# Altium schematic symbol library 5.1 - 1.25mm连接器(FPC1.25_GH1.25_MX1.25).SchLib: 16 symbols
Pins are listed as number, name and electrical type; pins without a type are passive.

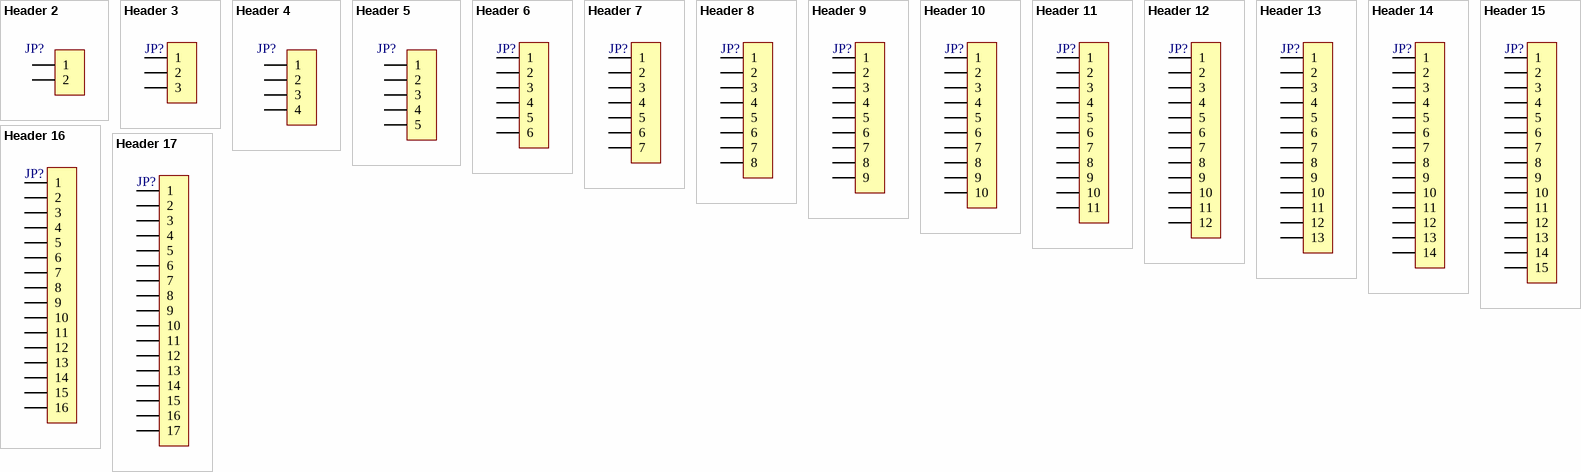
[diagram p0: symbols Header 2 to Header 17]

## Header 2
designator JP?, comment HDR-1X2  (value not drawn)
2P连接器; 联系卖家 免费技术支持: 封装库来自淘宝卖家ID：黄晶宝石; BOM名称: 2P连接器
footprint MX1.25-W-2P (长：4.25mm，宽：1.8mm，高：3.3mm)
footprint MX1.25-L-2P (长：4.25mm，宽：3.2mm，高：4.2mm)
footprint MX1.25-WT-2P (长：7.65mm，宽：4.2mm，高：3.4mm)
footprint MX1.25-LT-2P (长：7.25m，宽：3.7mm，高：4.7mm)
footprint GH1.25-LT-2P (GH1.25 2P 立贴插座)
footprint GH1.25-WT-2P (GH1.25 2P 卧贴插座)
pins: 1, 2

## Header 3
designator JP?, comment HDR-1X3  (value not drawn)
3P连接器; 联系卖家 免费技术支持: 封装库来自淘宝卖家ID：黄晶宝石; BOM名称: 3P连接器
footprint MX1.25-W-3P (长：5.5mm，宽：1.8mm，高：3.3mm)
footprint MX1.25-L-3P (长：5.5mm，宽：3.2mm，高：4.2mm)
footprint MX1.25-WT-3P (长：8.9mm，宽：4.2mm，高：3.4mm)
footprint MX1.25-LT-3P (长：8.5m，宽：3.7mm，高：4.7mm)
footprint GH1.25-LT-3P (GH1.25 3P 立贴插座)
footprint GH1.25-WT-3P (GH1.25 2P 卧贴插座)
pins: 1, 2, 3

## Header 4
designator JP?, comment HDR-1X4  (value not drawn)
4P连接器; 联系卖家 免费技术支持: 封装库来自淘宝卖家ID：黄晶宝石; BOM名称: 4P连接器
footprint MX1.25-W-4P (长：6.75mm，宽：1.8mm，高：3.3mm)
footprint MX1.25-L-4P (长：6.75mm，宽：3.2mm，高：4.2mm)
footprint MX1.25-WT-4P (长：10.15mm，宽：4.2mm，高：3.4mm)
footprint MX1.25-LT-4P (长：9.75m，宽：3.7mm，高：4.7mm 淘宝ID:黄晶宝石)
footprint FPC1.25-LI-4P (4脚，长：8.5mm，宽：4.5mm，高：7.3mm)
pins: 1, 2, 3, 4

## Header 5
designator JP?, comment HDR-1X5  (value not drawn)
5P连接器; 联系卖家 免费技术支持: 封装库来自淘宝卖家ID：黄晶宝石; BOM名称: 5P连接器
footprint MX1.25-W-5P (长：8mm，宽：1.8mm，高：3.3mm)
footprint MX1.25-L-5P (长：8mm，宽：3.2mm，高：4.2mm)
footprint MX1.25-WT-5P (长：11.4mm，宽：4.2mm，高：3.4mm)
footprint MX1.25-LT-5P (长：11m，宽：3.7mm，高：4.7mm 淘宝ID:黄晶宝石)
footprint FPC1.25-LI-5P (5脚，长：9.75mm，宽：4.5mm，高：7.3mm)
pins: 1, 2, 3, 4, 5

## Header 6
designator JP?, comment HDR-1X6  (value not drawn)
6P连接器; 联系卖家 免费技术支持: 封装库来自淘宝卖家ID：黄晶宝石; BOM名称: 6P连接器
footprint MX1.25-W-6P (长：9.25mm，宽：1.8mm，高：3.3mm)
footprint MX1.25-L-6P (长：9.25mm，宽：3.2mm，高：4.2mm            淘宝ID:黄晶宝石)
footprint MX1.25-WT-6P (长：12.65mm，宽：4.2mm，高：3.4mm)
footprint MX1.25-LT-6P (长：12.25m，宽：3.7mm，高：4.7mm)
footprint FPC1.25-LI-6P (6脚，长：11mm，宽：4.5mm，高：7.3mm)
pins: 1, 2, 3, 4, 5, 6

## Header 7
designator JP?, comment HDR-1X7  (value not drawn)
7P连接器; 联系卖家 免费技术支持: 封装库来自淘宝卖家ID：黄晶宝石; BOM名称: 7P连接器
footprint MX1.25-W-7P (长：10.5mm，宽：1.8mm，高：3.3mm)
footprint MX1.25-L-7P (长：10.5mm，宽：3.2mm，高：4.2mm)
footprint MX1.25-WT-7P (长：13.9mm，宽：4.2mm，高：3.4mm)
footprint MX1.25-LT-7P (长：13.5m，宽：3.7mm，高：4.7mm)
footprint FPC1.25-LI-7P (7脚，长：12.25mm，宽：4.5mm，高：7.3mm)
pins: 1, 2, 3, 4, 5, 6, 7

## Header 8
designator JP?, comment HDR-1X8  (value not drawn)
8P连接器; 联系卖家 免费技术支持: 封装库来自淘宝卖家ID：黄晶宝石; BOM名称: 8P连接器
footprint MX1.25-W-8P (长：11.75mm，宽：1.8mm，高：3.3mm)
footprint MX1.25-L-8P (长：11.75mm，宽：3.2mm，高：4.2mm)
footprint MX1.25-WT-8P (长：15.15mm，宽：4.2mm，高：3.4mm)
footprint MX1.25-LT-8P (长：14.75m，宽：3.7mm，高：4.7mm)
footprint FPC1.25-LI-8P (8脚，长：13.5mm，宽：4.5mm，高：7.3mm)
pins: 1, 2, 3, 4, 5, 6, 7, 8

## Header 9
designator JP?, comment HDR-1X9  (value not drawn)
9P连接器; 联系卖家 免费技术支持: 封装库来自淘宝卖家ID：黄晶宝石; BOM名称: 9P连接器
footprint MX1.25-W-9P (长：13mm，宽：1.8mm，高：3.3mm)
footprint MX1.25-L-9P (长：13mm，宽：3.2mm，高：4.2mm)
footprint MX1.25-WT-9P (长：16.4mm，宽：4.2mm，高：3.4mm)
footprint MX1.25-LT-9P (长：16m，宽：3.7mm，高：4.7mm)
footprint FPC1.25-LI-9P (9脚，长：14.75mm，宽：4.5mm，高：7.3mm)
pins: 1, 2, 3, 4, 5, 6, 7, 8, 9

## Header 10
designator JP?, comment HDR-1X10  (value not drawn)
10P连接器; 联系卖家 免费技术支持: 封装库来自淘宝卖家ID：黄晶宝石; BOM名称: 10P连接器
footprint MX1.25-L-10P (长：14.25mm，宽：3.2mm，高：4.2mm)
footprint MX1.25-LT-10P (长：17.25m，宽：3.7mm，高：4.7mm)
footprint MX1.25-W-10P (长：14.5mm，宽：1.8mm，高：3.3mm)
footprint MX1.25-WT-10P (长：17.65mm，宽：4.2mm，高：3.4mm)
footprint FPC1.25-LI-10P (10脚，长：16mm，宽：4.5mm，高：7.3mm 淘宝ID:黄晶宝石   店铺网址:https://shop463601444.taobao.com)
pins: 1, 2, 3, 4, 5, 6, 7, 8, 9, 10

## Header 11
designator JP?, comment HDR-1X11  (value not drawn)
11P连接器; 联系卖家 免费技术支持: 封装库来自淘宝卖家ID：黄晶宝石; BOM名称: 11P连接器
footprint MX1.25-W-11P (长：15.5mm，宽：1.8mm，高：3.3mm)
footprint MX1.25-L-11P (长：15.5mm，宽：3.2mm，高：4.2mm)
footprint MX1.25-WT-11P (长：18.9mm，宽：4.2mm，高：3.4mm)
footprint MX1.25-LT-11P (长：18.5mm，宽：3.7mm，高：4.7mm)
pins: 1, 2, 3, 4, 5, 6, 7, 8, 9, 10, 11

## Header 12
designator JP?, comment HDR-1X12  (value not drawn)
12P连接器; 联系卖家 免费技术支持: 封装库来自淘宝卖家ID：黄晶宝石; BOM名称: 12P连接器
footprint MX1.25-W-12P (长：16.75mm，宽：1.8mm，高：3.3mm)
footprint MX1.25-L-12P (长：16.75mm，宽：3.2mm，高：4.2mm)
footprint MX1.25-WT-12P (长：20.15mm，宽：4.2mm，高：3.4mm)
footprint MX1.25-LT-12P (长：19.75mm，宽：3.7mm，高：4.7mm)
pins: 1, 2, 3, 4, 5, 6, 7, 8, 9, 10, 11, 12

## Header 13
designator JP?, comment HDR-1X13  (value not drawn)
13P连接器; 联系卖家 免费技术支持: 封装库来自淘宝卖家ID：黄晶宝石; BOM名称: 13P连接器
footprint MX1.25-WT-13P (长：21.4mm，宽：4.2mm，高：3.4mm)
footprint MX1.25-LT-13P (长：21mm，宽：3.7mm，高：4.7mm)
footprint MX1.25-L-13P (长：18mm，宽：3.2mm，高：4.2mm)
footprint MX1.25-W-13P (长：18mm，宽：1.8mm，高：3.3mm)
pins: 1, 2, 3, 4, 5, 6, 7, 8, 9, 10, 11, 12, 13

## Header 14
designator JP?, comment HDR-1X14  (value not drawn)
14P连接器; 联系卖家 免费技术支持: 封装库来自淘宝卖家ID：黄晶宝石; BOM名称: 14P连接器
footprint MX1.25-WT-14P (长：22.65mm，宽：4.2mm，高：3.4mm          淘宝ID:黄晶宝石)
footprint MX1.25-LT-14P (长：22.25mm，宽：3.7mm，高：4.7mm)
footprint MX1.25-L-14P (长：19.25mm，宽：3.2mm，高：4.2mm)
footprint MX1.25-W-14P (长：19.25mm，宽：1.8mm，高：3.3mm)
pins: 1, 2, 3, 4, 5, 6, 7, 8, 9, 10, 11, 12, 13, 14

## Header 15
designator JP?, comment HDR-1X15  (value not drawn)
15P连接器; 联系卖家 免费技术支持: 封装库来自淘宝卖家ID：黄晶宝石; BOM名称: 15P连接器
footprint MX1.25-WT-15P (长：23.9mm，宽：4.2mm，高：3.4mm)
footprint MX1.25-LT-15P (长：23.5mm，宽：3.7mm，高：4.7mm)
footprint MX1.25-L-15P (长：20.5mm，宽：3.2mm，高：4.2mm)
footprint MX1.25-W-15P (长：20.5mm，宽：1.8mm，高：3.3mm)
pins: 1, 2, 3, 4, 5, 6, 7, 8, 9, 10, 11, 12, 13, 14, 15

## Header 16
designator JP?, comment HDR-1X16  (value not drawn)
16P连接器; BOM名称: 16连接器; 联系卖家 免费技术支持: 封装库来自淘宝卖家ID：黄晶宝石
footprint MX1.25-WT-16P (长：25.15mm，宽：4.2mm，高：3.4mm)
footprint MX1.25-LT-16P (长：24.75mm，宽：3.7mm，高：4.7mm)
footprint MX1.25-L-16P (长：21.75mm，宽：3.2mm，高：4.2mm)
footprint MX1.25-W-16P (长：21.75mm，宽：1.8mm，高：3.3mm)
pins: 1, 2, 3, 4, 5, 6, 7, 8, 9, 10, 11, 12, 13, 14, 15, 16

## Header 17
designator JP?, comment HDR-1X17  (value not drawn)
17P连接器; 联系卖家 免费技术支持: 封装库来自淘宝卖家ID：黄晶宝石; BOM名称: 17P连接器
footprint MX1.25-WT-17P (长：26.4mm，宽：4.2mm，高：3.4mm)
footprint MX1.25-LT-17P (长：26mm，宽：3.7mm，高：4.7mm)
footprint MX1.25-W-17P (长：23mm，宽：1.8mm，高：3.3mm)
footprint MX1.25-L-17P (长：23mm，宽：3.2mm，高：4.2mm)
pins: 1, 2, 3, 4, 5, 6, 7, 8, 9, 10, 11, 12, 13, 14, 15, 16, 17